# EAGLE library part 74LCX125 (library signal)
tri state quad buffer
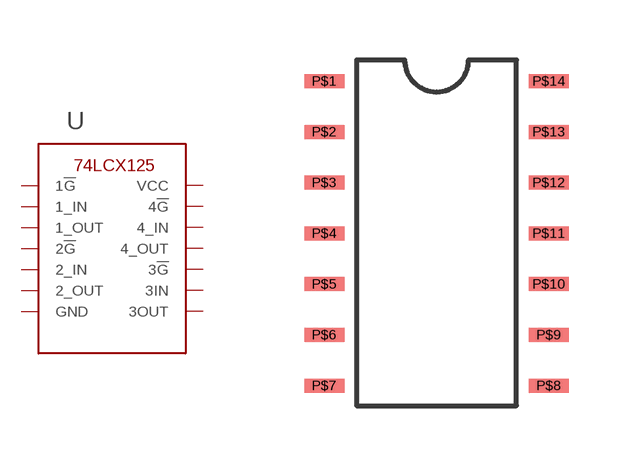
[diagram p0: symbol with the pads of SO-14; footprint SO-14]

Designator prefix U

## 74LCX125MTR  [SO-14]
P$1  1!G
P$2  1_IN
P$3  1_OUT
P$4  2!G
P$5  2_IN
P$6  2_OUT
P$7  GND  pwr
P$8  3OUT
P$9  3IN
P$10  3!G
P$11  4_OUT
P$12  4_IN
P$13  4!G
P$14  VCC  pwr

## Footprint SO-14 (pad centres in mm)
smd 1 x 0.35: P$1 -2.81,8.12; P$2 -2.81,6.85; P$3 -2.81,5.58; P$4 -2.81,4.31; P$5 -2.81,3.04; P$6 -2.81,1.77; P$7 -2.81,0.5; P$8 2.81,0.5; P$9 2.81,1.77; P$10 2.81,3.04; P$11 2.81,4.31; P$12 2.81,5.58; P$13 2.81,6.85; P$14 2.81,8.12